# Altium schematic symbol library TRANSFORMER.SchLib: 1 symbol
Pins are listed as number, name and electrical type; pins without a type are passive.

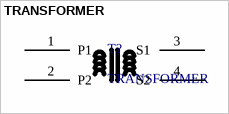
[diagram p0: symbol TRANSFORMER]

## TRANSFORMER
designator T?
Transformer symbol
pins: 1 P1, 2 P2, 3 S1, 4 S2